# EAGLE library part TFP410 (library TI)
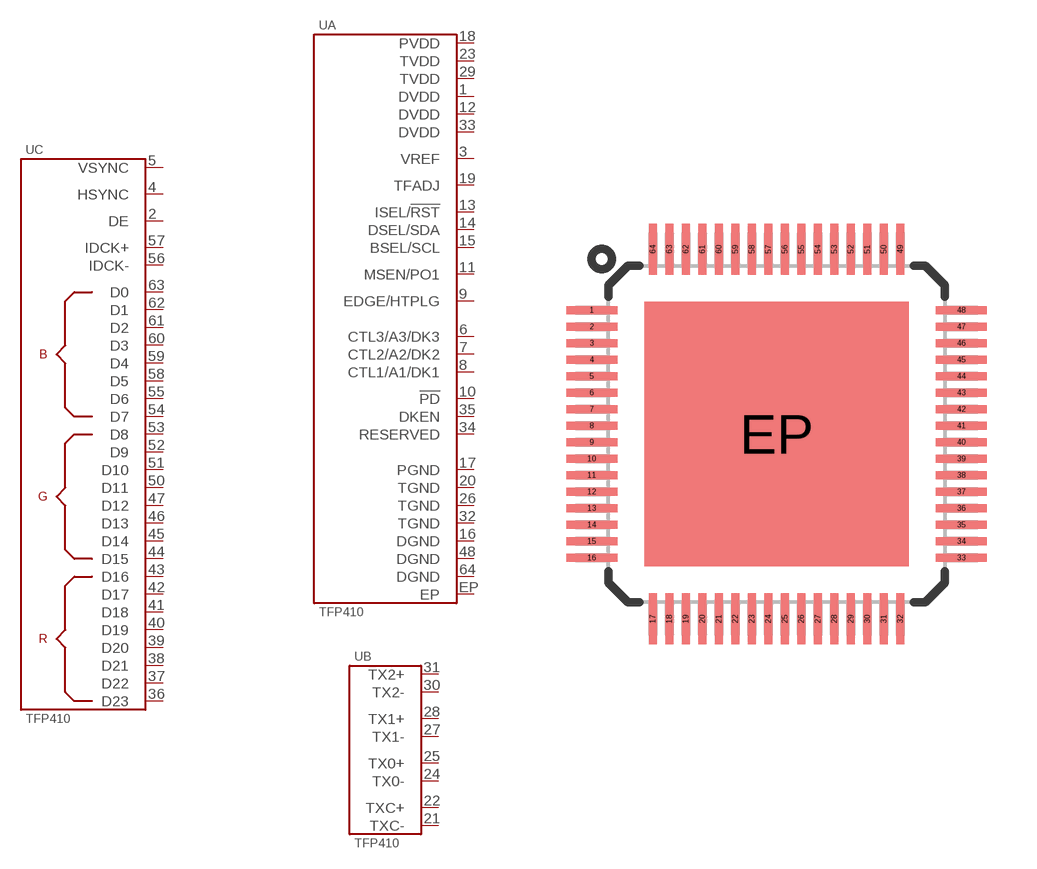
[diagram p2: symbol with the pads of PQFP-64; footprint PQFP-64]

Designator prefix U; gates A=TFP410 B=TFP410-HDMI C=TFP410-LCD

## TFP410  [PQFP-64]
1  A:DVDD
2  C:DE
3  A:VREF
4  C:HSYNC
5  C:VSYNC
6  A:CTL3/A3/DK3
7  A:CTL2/A2/DK2
8  A:CTL1/A1/DK1
9  A:EDGE/HTPLG
10  A:!PD
11  A:MSEN/PO1
12  A:DVDD
13  A:ISEL/!RST
14  A:DSEL/SDA
15  A:BSEL/SCL
16  A:DGND
17  A:PGND
18  A:PVDD
19  A:TFADJ
20  A:TGND
21  B:TXC-
22  B:TXC+
23  A:TVDD
24  B:TX0-
25  B:TX0+
26  A:TGND
27  B:TX1-
28  B:TX1+
29  A:TVDD
30  B:TX2-
31  B:TX2+
32  A:TGND
33  A:DVDD
34  A:RESERVED
35  A:DKEN
36  C:D23
37  C:D22
38  C:D21
39  C:D20
40  C:D19
41  C:D18
42  C:D17
43  C:D16
44  C:D15
45  C:D14
46  C:D13
47  C:D12
48  A:DGND
50  C:D11
51  C:D10
52  C:D9
53  C:D8
54  C:D7
55  C:D6
56  C:IDCK-
57  C:IDCK+
58  C:D5
59  C:D4
60  C:D3
61  C:D2
62  C:D1
63  C:D0
64  A:DGND
EP  A:EP

## Footprint PQFP-64 (pad centres in mm)
smd 1.55 x 0.25: 1 -5.6,3.75; 2 -5.6,3.25; 3 -5.6,2.75; 4 -5.6,2.25; 5 -5.6,1.75; 6 -5.6,1.25; 7 -5.6,0.75; 8 -5.6,0.25; 9 -5.6,-0.25; 10 -5.6,-0.75; 11 -5.6,-1.25; 12 -5.6,-1.75; 13 -5.6,-2.25; 14 -5.6,-2.75; 15 -5.6,-3.25; 16 -5.6,-3.75; 33 5.6,-3.75; 34 5.6,-3.25; 35 5.6,-2.75; 36 5.6,-2.25; 37 5.6,-1.75; 38 5.6,-1.25; 39 5.6,-0.75; 40 5.6,-0.25; 41 5.6,0.25; 42 5.6,0.75; 43 5.6,1.25; 44 5.6,1.75; 45 5.6,2.25; 46 5.6,2.75; 47 5.6,3.25; 48 5.6,3.75
smd 0.25 x 1.55: 17 -3.75,-5.6; 18 -3.25,-5.6; 19 -2.75,-5.6; 20 -2.25,-5.6; 21 -1.75,-5.6; 22 -1.25,-5.6; 23 -0.75,-5.6; 24 -0.25,-5.6; 25 0.25,-5.6; 26 0.75,-5.6; 27 1.25,-5.6; 28 1.75,-5.6; 29 2.25,-5.6; 30 2.75,-5.6; 31 3.25,-5.6; 32 3.75,-5.6; 49 3.75,5.6; 50 3.25,5.6; 51 2.75,5.6; 52 2.25,5.6; 53 1.75,5.6; 54 1.25,5.6; 55 0.75,5.6; 56 0.25,5.6; 57 -0.25,5.6; 58 -0.75,5.6; 59 -1.25,5.6; 60 -1.75,5.6; 61 -2.25,5.6; 62 -2.75,5.6; 63 -3.25,5.6; 64 -3.75,5.6
smd 8 x 8: EP 0,0